# Altium schematic symbol library sanziqi_v1.2.SchLib: 41 symbols
Pins are listed as number, name and electrical type; pins without a type are passive.

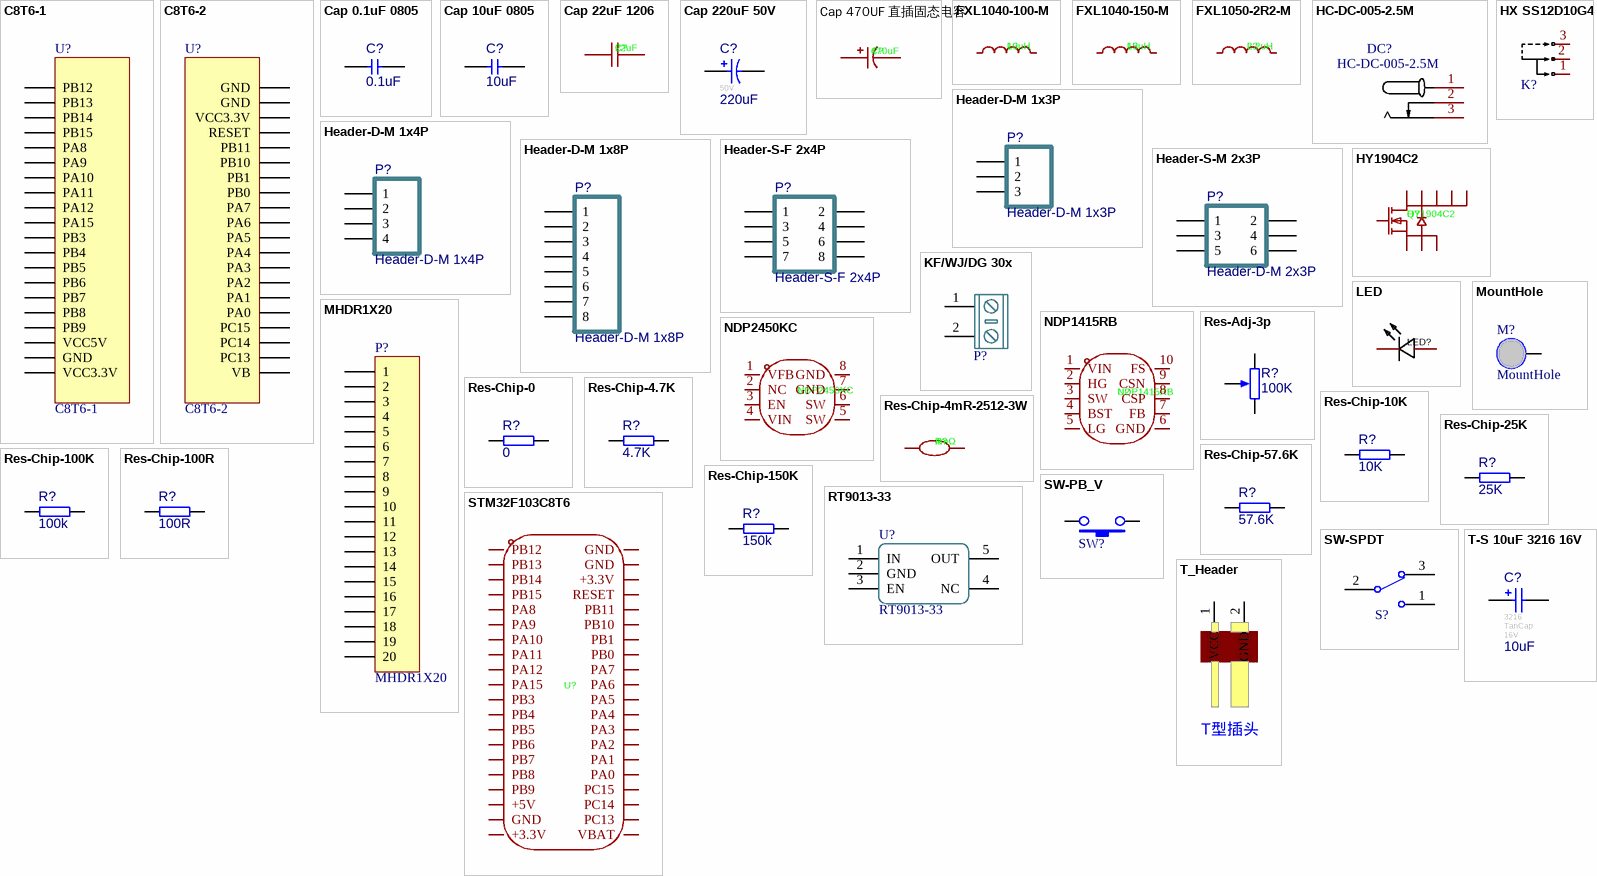
[diagram p0: symbols C8T6-1 to T_Header]

## C8T6-1
designator U?
stm32f103c8t6扩展接口
footprint HDR2.54-M-LI-20P (排母，20脚)
pins: 1 PB12, 2 PB13, 3 PB14, 4 PB15, 5 PA8, 6 PA9, 7 PA10, 8 PA11, 9 PA12, 10 PA15, 11 PB3, 12 PB4, 13 PB5, 14 PB6, 15 PB7, 16 PB8, 17 PB9, 18 VCC5V, 19 GND, 20 VCC3.3V

## C8T6-2
designator U?
stm32f103c8t6扩展接口
footprint HDR2.54-M-LI-20P (排母，20脚)
pins: 1 GND, 2 GND, 3 VCC3.3V, 4 RESET, 5 PB11, 6 PB10, 7 PB1, 8 PB0, 9 PA7, 10 PA6, 11 PA5, 12 PA4, 13 PA3, 14 PA2, 15 PA1, 16 PA0, 17 PC15, 18 PC14, 19 PC13, 20 VB

## Cap 0.1uF 0805
designator C?  value 0.1uF
贴片电容0805; Revision: V1.0
footprint C0805
pins: 1, 2

## Cap 10uF 0805
designator C?  value 10uF
贴片电容0805; Revision: V1.0
footprint C0805
pins: 1, 2

## Cap 22uF 1206
designator C?, comment 22uF
Manufacturer: HRE(芯声); Symbol: CGA1206X5R226M350NT; Add into BOM: yes; Tolerance: ±20%; Voltage Rated: 35V; Temperature Coefficient: X5R; Device: CGA1206X5R226M350NT; LCSC Part Name: 22uF ±20% 35V; Supplier Part: C6119969; Manufacturer Part: CGA1206X5R226M350NT; Supplier Footprint: 1206; JLCPCB Part Class: Extended Part; Supplier: LCSC; Convert to PCB: yes; Value: 22uF
footprint C1206
3D model C1206_L3.2-W1.6-H1.3
pins: 1, 2

## Cap 220uF 50V 
designator C?, comment value 220uF  Voltage: 50V  (hidden comment: 220uF 50V 铝电解)
直插电解电容 220uF; Revision: V1.0; Type: 铝电解
footprint CAP-TH_BD8.0-P3.50-D0.6-FD
pins: 1, 2

## Cap 470UF 直插固态电容
designator C?, comment 470uF
直插固态电容 470UF; Manufacturer: HONOR(荣誉); Symbol: HG1H477M1016PC; Add into BOM: yes; Tolerance: ±20%; Rated Voltage: 50V; Ripple Current: 3.15A; Equivalent Series Resistance(ESR): 32mΩ; φD: 10mm; L: 16mm; Lifetime @ Temp: 2000hrs@105℃; Device: HG1H477M1016PC; LCSC Part Name: 470uF ±20% 50V; Supplier Part: C5438877; Manufacturer Part: HG1H477M1016PC; Supplier Footprint: 插件,D10xL16mm; JLCPCB Part Class: Extended Part; Datasheet: https://atta.szlcsc.com/upload/public/pdf/source/20230323/E6B46A248FBB182638B68380B3289E6D.pdf; Supplier: LCSC; Convert to PCB: yes; Value: 470uF; Lead Spacing: 5mm; Operating Temperature: -55℃~+105℃
footprint CAP-TH_BD8.0-P3.50-D0.6-FD_1
pins: 1, 2

## FXL1040-100-M
designator L?, comment 10uH
Manufacturer: cjiang(长江微电); Symbol: FXL1040-100-M; Add into BOM: yes; Tolerance: ±20%; Rated Current: 7.8A; Current - Saturation (Isat): 8.5A; DC Resistance (DCR): 30mΩ; Type: 一体成型电感; Device: FXL1040-100-M; LCSC Part Name: 10uH ±20% 8.5A; Supplier Part: C475915; Manufacturer Part: FXL1040-100-M; Supplier Footprint: SMD,11.5x10mm; JLCPCB Part Class: Extended Part; Datasheet: https://atta.szlcsc.com/upload/public/pdf/source/20240426/3189EA8206330E2108542F9E34E540E7.pdf; Supplier: LCSC; Convert to PCB: yes; Value: 10uH
footprint IND-SMD_L11.5-W10.0_FXL1040
3D model IND-SMD_L11.5-W10.0-H3.8_FXL1040
pins: 1, 2

## FXL1040-150-M
designator L?, comment 15uH
Manufacturer: cjiang(长江微电); Symbol: FXL1040-150-M; Add into BOM: yes; Tolerance: ±20%; Rated Current: 6.5A; Saturation Current (Isat): 7A; DC Resistance (DCR): 45mΩ; Type: 一体成型电感; Device: FXL1040-150-M; LCSC Part Name: 15uH ±20% 7A; Supplier Part: C475916; Manufacturer Part: FXL1040-150-M; Supplier Footprint: SMD,11.5x10mm; JLCPCB Part Class: Extended Part; Datasheet: https://atta.szlcsc.com/upload/public/pdf/source/20240426/3189EA8206330E2108542F9E34E540E7.pdf; Supplier: LCSC; Convert to PCB: yes; Value: 15uH
footprint IND-SMD_L11.5-W10.0_FXL1040
3D model IND-SMD_L11.5-W10.0-H3.8_FXL1040
pins: 1, 2

## FXL1050-2R2-M
designator L?, comment 2.2uH
Manufacturer: cjiang(长江微电); Symbol: FXL1050-2R2-M; Add into BOM: yes; Tolerance: ±20%; Rated Current: 15A; Saturation Current (Isat): 19A; DC Resistance (DCR): 6mΩ; Type: 一体成型电感; Device: FXL1050-2R2-M; LCSC Part Name: 2.2uH ±20% 19A; Supplier Part: C5359259; Manufacturer Part: FXL1050-2R2-M; Supplier Footprint: SMD,10x11.5mm; JLCPCB Part Class: Extended Part; Datasheet: https://atta.szlcsc.com/upload/public/pdf/source/20240426/3189EA8206330E2108542F9E34E540E7.pdf; Supplier: LCSC; Convert to PCB: yes; Value: 2.2uH
footprint IND-SMD_L11.5-W10.0_FXL1040
3D model IND-SMD_L11.5-W10.0-H3.8_FXL1040
pins: 1, 2

## HC-DC-005-2.5M
designator DC?
Manufacturer: HCTL(华灿天禄); 3DModel: DC-IN-TH_KH-DC-005-2.5; Add into BOM: yes; Symbol: HC-DC-005-2.5M; Device: HC-DC-005-2.5M; link: https://atta.szlcsc.com/upload/public/pdf/source/20210716/C2847170_7F0110A0BEDEE81C68B76DF87AC8DA16.pdf; Supplier: LCSC; Supplier Part: C3010535; Manufacturer Part: HC-DC-005-2.5M; JLCPCB Part Class: ExtendedPart; Convert to PCB: yes; Origin Footprint: DC-IN-TH_KH-DC-005-2.5; Name: HC-DC-005-2.5M
footprint DC-005 (DC母座5.5mm)
pins: 1, 2, 3

## Header-D-M 1x3P
designator P?
1x3pin, 直插, 排针; Revision: V1.0; Value: Header-D-M 1x3P
footprint HDR1X3-M (1x3pin, 2.54mm间距, 直插, 直排针)
pins: 1, 2, 3

## Header-D-M 1x4P
designator P?
1x4pin, 直插, 排针; Revision: V1.0; Value: Header-D-M 1x4P
footprint HDR1X4-M (1x4pin, 2.54mm间距, 直插, 直排针)
pins: 1, 2, 3, 4

## Header-D-M 1x8P
designator P?
1x8pin, 直插, 排针; Revision: V1.0; Value: Header-D-M 1x8P
footprint HDR1X8-M (1x7pin, 2.54mm间距, 直插, 直排针)
pins: 1, 2, 3, 4, 5, 6, 7, 8

## Header-S-F 2x4P
designator P?
2x4pin,, 双排座; Revision: V1.0; Value: Header-S-F 2x4P
footprint HDR2.54-LI-2x4P (双排排针，4x2脚)
pins: 1, 2, 3, 4, 5, 6, 7, 8

## Header-S-M 2x3P
designator P?, comment Header-D-M 2x3P
2x3pin, 双排针; Revision: V1.0; Value: Header-D-M 2x3P
footprint 2.54mm 2*3p 直插
pins: 1, 2, 3, 4, 5, 6

## HX SS12D10G4
designator K?  (value not drawn)
单刀三档开关; Manufacturer: hanxia(韩下); Add into BOM: yes; Name: HX SS12D10G4; Symbol: HX SS12D10G4; Device: HX SS12D10G4; LCSC Part Name: 拨动开关 立式两档拨动,单排3脚插件,12.7x6.7x6.4,黑柄4mm; Supplier Part: C5149841; Manufacturer Part: HX SS12D10G4; Supplier Footprint: 插件; JLCPCB Part Class: Extended Part; Datasheet: https://atta.szlcsc.com/upload/public/pdf/source/20220907/2020D7183ED16DD6E2B9F5A13FB144CF.pdf; Supplier: LCSC; Convert to PCB: yes
footprint SW-TH_SHOU-HAN_SS12D10G4
3D model SW-TH_SHOU-HAN_SS12D10G4
footprint SS12D10
pins: 1, 2, 3

## HY1904C2
designator Q?
Manufacturer: HUAYI(华羿微); Add into BOM: yes; Type: 1个N沟道; Drain Source Voltage (Vdss): 40V; Continuous Drain Current (Id): 65A; Drain Source On Resistance (RDS(on)@Vgs,Id): 5.1mΩ@10V,20A; Power Dissipation (Pd): 48W; Gate Threshold Voltage (Vgs(th)@Id): 1.7V@250uA; Input Capacitance (Ciss@Vds): 2.391nF; Reverse Transfer Capacitance (Crss@Vds): 195pF; Symbol: HY1904C2; Device: HY1904C2; LCSC Part Name: 1个N沟道 耐压:40V 电流:65A; Supplier Part: C358116; Manufacturer Part: HY1904C2; Supplier Footprint: PPAK-8L(5x6); JLCPCB Part Class: Extended Part; Datasheet: https://atta.szlcsc.com/upload/public/pdf/source/20240403/459DCB52747AD59BD0F26F373CF55DC0.pdf; Supplier: LCSC; Convert to PCB: yes; Operating Temperature: -55℃~+150℃
footprint DFN-8_L5.9-W5.2-P1.27-LS6.2-BL
3D model DFN-8_L5.9-W5.2-P1.27-LS6.2-BL
pins: 1 S, 2 S, 3 S, 4 G, 5 D, 6 D, 7 D, 8 D, 9 D

## KF/WJ/DG 30x
designator P?, comment KF/WJ/DG 30x connecter  (value not drawn)
接线端子 2Pin
footprint KF/WJ/DG 301-2p-5.0mm (2P 5.08mm间距 接线端子)
pins: 1, 2

## LED
designator LED?, comment NCD0805R1  (value not drawn)
Manufacturer: 国星光电; Symbol: FC-2012HRK-620D; Add into BOM: yes; Emitted Color: 红色; Forward Voltage (VF): 1.6V~2.6V; Power Dissipation: 65mW; Forward Current: 20mA; Dominant Wavelength: 615nm~630nm; Diode Configuration: 独立二极管; Lens Color: 无色透明; Luminous Intensity: 67mcd~195mcd; Viewing Angle: 130°; Device: NCD0805R1; Supplier: LCSC; Manufacturer Part: NCD0805R1; Supplier Part: C84256; JLCPCB Part Class: Basic Part; LCSC Part Name: NCD0805R1; Supplier Footprint: 0805; Datasheet: https://atta.szlcsc.com/upload/public/pdf/source/20200820/C84256_F0A75A43B3EAD75808600A0514C76B99.pdf; Convert to PCB: yes; Lamp Holder Type: -; Peak Wavelength: -; Color Temperature: -; Mounting Sytle: -; Operating Temperature: -30℃~+85℃
footprint LED0805-R-RD
pins: 1 +, 2 -

## MHDR1X20
designator P?
Header, 20-Pin; LatestRevisionDate: 17-Jul-2002; LatestRevisionNote: Re-released for DXP Platform.; Publisher: Altium Limited
footprint HDR2.54-LI-20P (排针，20脚)
pins: 1, 2, 3, 4, 5, 6, 7, 8, 9, 10, 11, 12, 13, 14, 15, 16, 17, 18, 19, 20

## MountHole
designator M?  (no BOM)
固定孔
footprint M3-MountHole
pins: 1

## NDP1415RB
designator U?
Manufacturer: NDP(芯潭微); Add into BOM: yes; Function: 降压型; Input Voltage: 7V~28V; Output Current: 20A; Switching Frequency: 300kHz; Synchronous Rectification: 是; Number of Outputs: 1; Topology: 降压式; Switch tube (built-in/external): 外置; Symbol: NDP1415RB; Device: NDP1415RB; LCSC Part Name: 高效同步降压DC/DC控制器; Supplier Part: C7420579; Manufacturer Part: NDP1415RB; Supplier Footprint: SSOP-10; JLCPCB Part Class: Extended Part; Datasheet: https://atta.szlcsc.com/upload/public/pdf/source/20241223/4836769600561BB75D4AE5E87B409A49.pdf; Supplier: LCSC; Convert to PCB: yes; Operating Temperature: -40℃~+150℃
footprint SSOP-10_L4.9-W3.9-P1.00-LS6.0-BL-1
3D model SSOP-10_L4.9-W3.9-P1.00-LS6.0-BL-1
pins: 1 VIN, 2 HG, 3 SW, 4 BST, 5 LG, 6 GND, 7 FB, 8 CSP, 9 CSN, 10 FS

## NDP2450KC
designator U?
Manufacturer: NDP(芯潭微); Add into BOM: yes; Function: 降压型; Output Type: 可调; Input Voltage: 5.5V~40V; Output Current: 5A; Switching Frequency: 300kHz; Number of Outputs: 1; Topology: 降压式; Quiescent Current (Iq): 1.3mA; Switch tube (built-in/external): 内置; Symbol: NDP2450KC; Device: NDP2450KC; LCSC Part Name: 高效同步降压DC/DC转换器; Supplier Part: C7420594; Manufacturer Part: NDP2450KC; Supplier Footprint: SOP-8; JLCPCB Part Class: Extended Part; Datasheet: https://atta.szlcsc.com/upload/public/pdf/source/20241223/8636749DAA6B1A5E6731A1AFEB5B6D25.pdf; Supplier: LCSC; Convert to PCB: yes; Output Voltage: -; Operating Temperature: -40℃~+150℃; Synchronous Rectification: -
footprint SOP-8_L4.9-W3.9-P1.27-LS6.0-BL
3D model SOP-8_L4.9-W3.9-P1.27-LS6.0-BL-1
pins: 1 VFB, 2 NC, 3 EN, 4 VIN, 5 SW, 6 SW, 7 GND, 8 GND

## Res-Adj-3p
designator R?, comment 100K
可调电阻; Value: 100K
footprint RESPOT3296W (3296W 精密可调电阻 顶调)
pins: 1 TOP, 2 BOT, ADJ

## Res-Chip-0
designator R?, comment value 0  (hidden comment: 0 ±1%)
贴片电阻; Power: 1/8W; Revision: V1.0; Tolerance: ±1%
footprint R0805
pins: 1, 2

## Res-Chip-4.7K
designator R?, comment value 4.7K  (hidden comment: 4.7K ±1%)
贴片电阻; Power: 1/8W; Revision: V1.0; Tolerance: ±1%
footprint R0805
pins: 1, 2

## Res-Chip-4mR-2512-3W
designator R?, comment 4mΩ
Manufacturer: Milliohm(毫欧); Symbol: HOJLR2512-3W-4MR-1%; Add into BOM: yes; Tolerance: ±1%; Power(Watts): 3W; Mounting Sytle: 贴片; Device: HoJLR2512-3W-4mR-1%; LCSC Part Name: 4mΩ ±1% 3W; Supplier Part: C2904236; Manufacturer Part: HoJLR2512-3W-4mR-1%; Supplier Footprint: 2512; JLCPCB Part Class: Extended Part; Datasheet: https://atta.szlcsc.com/upload/public/pdf/source/20211009/7525CABAB363C979E942C1DD41F1FEF0.pdf; Supplier: LCSC; Convert to PCB: yes; Type: 采样电阻; Value: 4mΩ
footprint RES-SMD_L6.4-W3.2-R2512
3D model RES-SMD_L6.4-W3.2-R2512
pins: 1, 2

## Res-Chip-10K
designator R?, comment value 10K  (hidden comment: 10K ±1%)
贴片电阻; Power: 1/8W; Revision: V1.0; Tolerance: ±1%
footprint R0805
pins: 1, 2

## Res-Chip-25K
designator R?, comment value 25K  (hidden comment: 25K ±1%)
贴片电阻; Power: 1/8W; Revision: V1.0; Tolerance: ±1%
footprint R0805
pins: 1, 2

## Res-Chip-57.6K
designator R?, comment value 57.6K  (hidden comment: 57.6K ±1%)
贴片电阻; Power: 1/8W; Revision: V1.0; Tolerance: ±1%
footprint R0805
pins: 1, 2

## Res-Chip-100K
designator R?, comment value 100k  (hidden comment: 100k ±1%)
贴片电阻; Power: 1/8W; Revision: V1.0; Tolerance: ±1%
footprint R0805
pins: 1, 2

## Res-Chip-100R
designator R?, comment value 100R  (hidden comment: 100R ±1%)
贴片电阻; Power: 1/8W; Revision: V1.0; Tolerance: ±1%
footprint R0805
pins: 1, 2

## Res-Chip-150K
designator R?, comment value 150k  (hidden comment: 150k ±1%)
贴片电阻; Power: 1/8W; Revision: V1.0; Tolerance: ±1%
footprint R0805
pins: 1, 2

## RT9013-33
designator U?
3.3V 500mA SOT-23-5 LDO
footprint SOT-23-5
pins: 1 IN, 2 GND, 3 EN, 4 NC, 5 OUT

## STM32F103C8T6
designator U?, comment LCKFB-DKX-STM32F103C8T6  (value not drawn)
Manufacturer: 立创开发板; Add into BOM: yes; Symbol: LCKFB-DKX-STM32F103C8T6; Device: LCKFB-DKX-STM32F103C8T6; LCSC Part Name: 立创·地阔星-STM32F103C8T6开发板; Supplier Part: C22396880; Manufacturer Part: LCKFB-DKX-STM32F103C8T6; Supplier Footprint: -; JLCPCB Part Class: Extended Part; Datasheet: https://atta.szlcsc.com/upload/public/pdf/source/20240801/7EEF69F7480DF7C6DA98696664D658D4.pdf; Supplier: LCSC; Convert to PCB: yes
footprint CONN-TH_L53.3-W22.9_STM32F103C8T6-CARD
pins: 1 PB12, 2 PB13, 3 PB14, 4 PB15, 5 PA8, 6 PA9, 7 PA10, 8 PA11, 9 PA12, 10 PA15, 11 PB3, 12 PB4, 13 PB5, 14 PB6, 15 PB7, 16 PB8, 17 PB9, 18 +5V, 19 GND, 20 +3.3V, 21 VBAT, 22 PC13, 23 PC14, 24 PC15, 25 PA0, 26 PA1, 27 PA2, 28 PA3, 29 PA4, 30 PA5, 31 PA6, 32 PA7, 33 PB0, 34 PB1, 35 PB10, 36 PB11, 37 RESET, 38 +3.3V, 39 GND, 40 GND

## SW-PB_V
designator SW?  (value not drawn)
SWITCH
footprint TSW SMD-3*6*2.5 (3*6*2.5mm)
pins: 1, 2

## SW-SPDT
designator S?  (value not drawn)
单刀双掷开关 3脚船型、钮子、拨动开关 SPDT Subminiature Toggle Switch; Published: 24-Mar-1999; Publisher: Altium Limited; Price(RMB): 0.000
footprint SS12D10
pins: 1, 2, 3

## T-S 10uF 3216 16V
designator C?  value 10uF  FootPrint: 3216  Type: TanCap  Voltage: 16V  (hidden comment: T-S 10uF 3216 16V)
贴片钽电容 10uF 3216 16V; Revision: July-2002: Re-released for DXP Platform.
footprint CAP-T-S 3216
pins: 1, 2

## T_Header
designator DCIN?, comment T型插头
footprint Wired T-Header ThroughHole
pins: 1 VCC, 2 GND

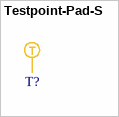
[diagram p1: symbol Testpoint-Pad-S]

## Testpoint-Pad-S
designator T?, comment Testpoint-Pad  (value not drawn)  (no BOM)
测试点，就是个焊盘
footprint testpoint-pad-1mm
pins: 1 T